# EAGLE library part NCV272DR2G (library NCV272DR2G)
Wide Bandwidth: 3 MHz; Wide Power Supply Range: 2.7 to 36V; Low Supply Current: 416 A; Rail to Rail Output Source: Datasheet <https://www.onsemi.com/pub/Collateral/TLV271-D.PDF>
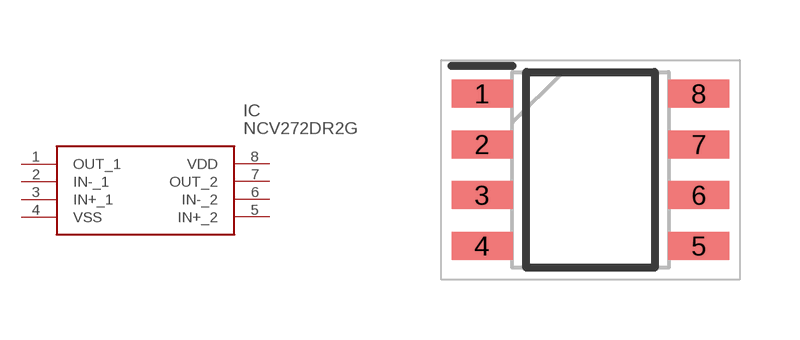
[diagram p0: symbol with the pads of SOIC127P600X175-8N; footprint SOIC127P600X175-8N]

Designator prefix IC

## NCV272DR2G (Description: Wide Bandwidth: 3 MHz; Wide Power Supply Range: 2.7 to 36V; Low Supply Current: 416 A; Rail to Rail Output; Height: 1.75mm; Manufacturer_Name: onsemi; Manufacturer_Part_Number: NCV272DR2G)  [SOIC127P600X175-8N]
1  OUT_1
2  IN-_1
3  IN+_1
4  VSS
5  IN+_2
6  IN-_2
7  OUT_2
8  VDD

## Footprint SOIC127P600X175-8N (pad centres in mm)
SOIC-8 NB CASE 751-07 ISSUE AK
smd 1.525 x 0.7: 1 -2.712,1.905; 2 -2.712,0.635; 3 -2.712,-0.635; 4 -2.712,-1.905; 5 2.712,-1.905; 6 2.712,-0.635; 7 2.712,0.635; 8 2.712,1.905